# EAGLE library part TLC59283 (library pimoroni-ics)
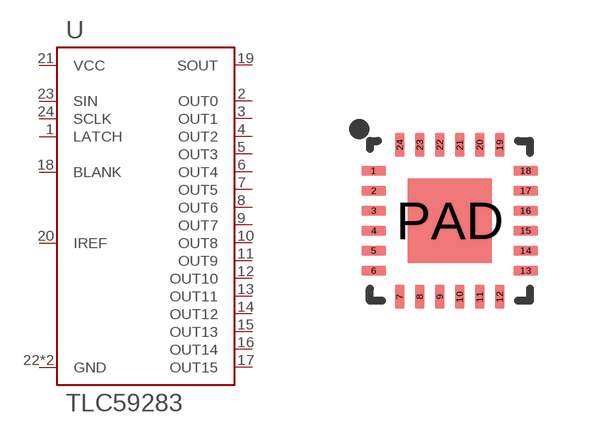
[diagram p143: symbol with the pads of QFN-24; footprint QFN-24]

Designator prefix U

## TLC59283  [QFN-24]
1  LATCH
2  OUT0
3  OUT1
4  OUT2
5  OUT3
6  OUT4
7  OUT5
8  OUT6
9  OUT7
10  OUT8
11  OUT9
12  OUT10
13  OUT11
14  OUT12
15  OUT13
16  OUT14
17  OUT15
18  BLANK
19  SOUT
20  IREF
21  VCC
22  GND
23  SIN
24  SCLK
PAD  GND

## Footprint QFN-24 (pad centres in mm)
smd 0.6 x 0.24: 1 -1.9,1.25; 2 -1.9,0.75; 3 -1.9,0.25; 4 -1.9,-0.25; 5 -1.9,-0.75; 6 -1.9,-1.25; 13 1.9,-1.25; 14 1.9,-0.75; 15 1.9,-0.25; 16 1.9,0.25; 17 1.9,0.75; 18 1.9,1.25
smd 0.24 x 0.6: 7 -1.25,-1.9; 8 -0.75,-1.9; 9 -0.25,-1.9; 10 0.25,-1.9; 11 0.75,-1.9; 12 1.25,-1.9; 19 1.25,1.9; 20 0.75,1.9; 21 0.25,1.9; 22 -0.25,1.9; 23 -0.75,1.9; 24 -1.25,1.9
smd 2.1 x 2.1: PAD 0,0